# Altium footprint library SOIC-20_L13.0-W7.6-P1.27-LS10.3-BL.PcbLib: 1 footprints
Each footprint in its own frame and in the unit in brackets; x right, y up, seen from the top. Pads: shape width x height; smd on the part's side, far side on the other; paste and mask are expansions set on the pad; w line width, h text height; cw(c..) or ccw(c..) is an arc to the next point about the centre after c.
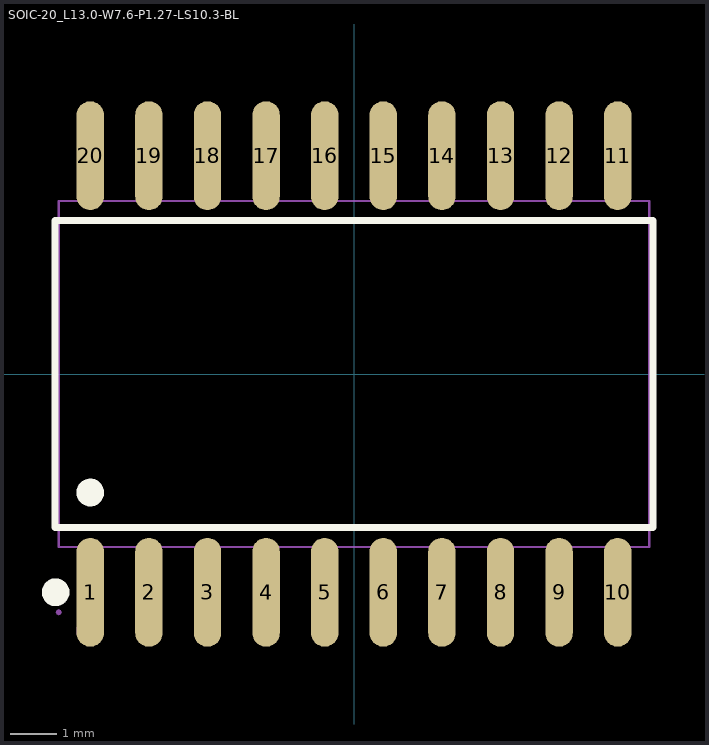
[diagram p0: the footprint, top view; thin cyan lines are the x and y axes]

## SOIC-20_L13.0-W7.6-P1.27-LS10.3-BL [mm]
pads (20):
  oval 0.595x2.36 smd: 1(-5.715,-4.73) 2(-4.445,-4.73) 3(-3.175,-4.73) 4(-1.905,-4.73) 5(-0.635,-4.73) 6(0.635,-4.73) 7(1.905,-4.73) 8(3.175,-4.73) 9(4.445,-4.73) 10(5.715,-4.73) 11(5.715,4.73) 12(4.445,4.73) 13(3.175,4.73) 14(1.905,4.73) 15(0.635,4.73) 16(-0.635,4.73) 17(-1.905,4.73) 18(-3.175,4.73) 19(-4.445,4.73) 20(-5.715,4.73)
Top Overlay:
  circle w0.3: c-5.715,-2.569 r0.15
  circle w0.3: c-6.465,-4.73 r0.15
  lines w0.152: -6.476,-3.321 -6.476,3.321 6.476,3.321 6.476,-3.321 -6.476,-3.321
Mechanical 6:
  circle w0.3: c-5.715,-5.563 r0.15
Mechanical 15:
  drawing of 45 lines, arcs and shapes, not listed